# Altium footprint library CONN_W2B.PcbLib: 89 footprints (part 4 of 6)
Each footprint in its own frame and in the unit in brackets; x right, y up, seen from the top. Pads: shape width x height; smd on the part's side, far side on the other; paste and mask are expansions set on the pad; w line width, h text height; cw(c..) or ccw(c..) is an arc to the next point about the centre after c.
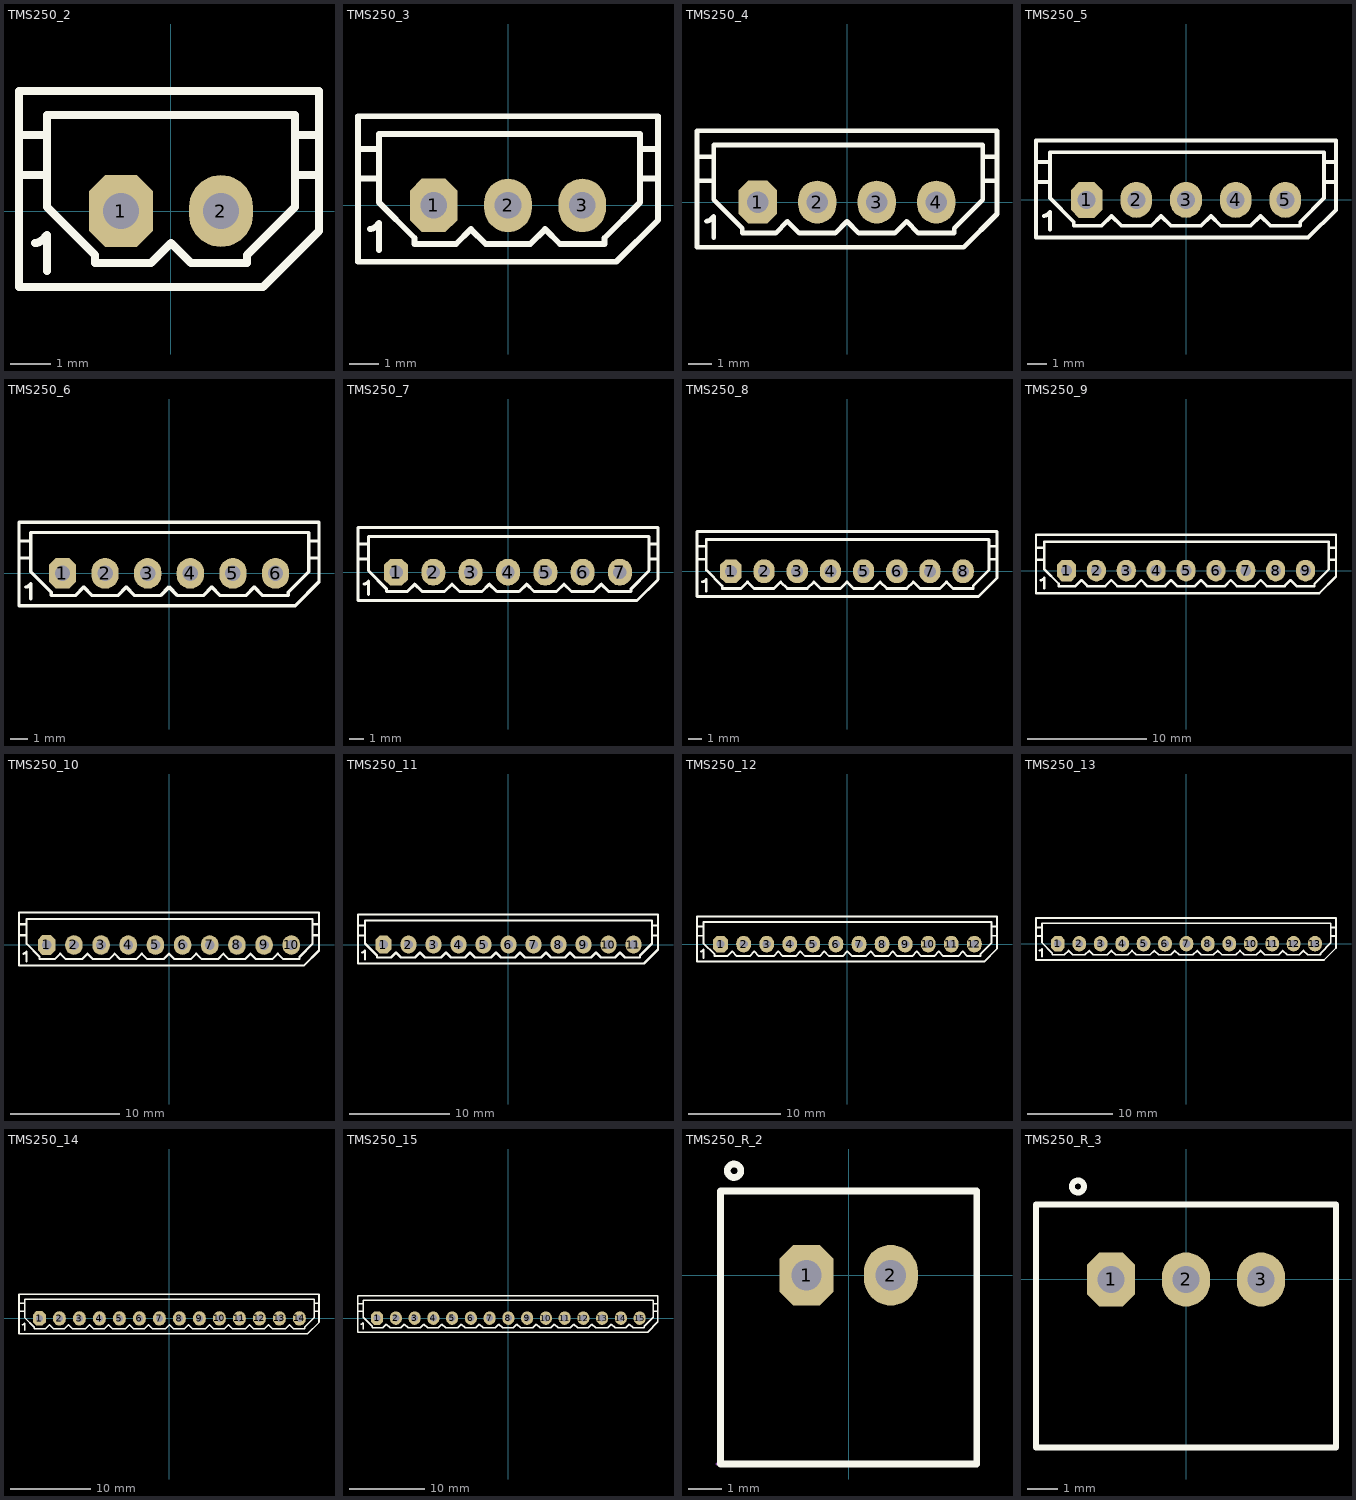
[diagram p3: the footprints below, top view; thin cyan lines are the x and y axes]

## TMS250_2 [mm] "Molex Mini-SPOX, pitch 2.50mm, 4.0A"
pads (2):
  oct 1.6x1.8 hole 0.9: 1(-1.25,0)
  oval 1.6x1.8 hole 0.9: 2(1.25,0)
Top Overlay:
  lines w0.2: -3.7,0.9 -3.1,0.9 ; -3.7,1.9 -3.1,1.9 ; -3.4,-0.8 ccw(c-3.4,-0.559) -3.229,-0.729 -3.1,-0.6 -3.1,-1.5 ; 3.7,0.9 3.1,0.9 ; 3.7,1.9 3.1,1.9 ; -3.1,0.9 -3.1,0.1 -1.9,-1.1 -1.9,-1.3 -0.5,-1.3 0,-0.8 0.5,-1.3 1.9,-1.3 1.9,-1.1 3.1,0.1 3.1,0.9 ; -3.1,0.9 -3.1,1.9 ; -3.1,1.9 -3.1,2.4 3.1,2.4 3.1,1.9 ; 3.1,0.9 3.1,1.9 ; -3.8,-1.9 2.3,-1.9 3.7,-0.5 3.7,3 -3.8,3 -3.8,-1.9
3D body "User Library-TMS2-2_5_S-H.step": height 10.85, standoff -3.55, extent -3.7,-1.81 3.7,3.21

## TMS250_3 [mm] "Molex Mini-SPOX, pitch 2.50mm, 4.0A"
pads (3):
  oct 1.6x1.8 hole 0.9: 1(-2.5,0)
  oval 1.6x1.8 hole 0.9: 2(0,0) 3(2.5,0)
Top Overlay:
  lines w0.2: -4.95,0.9 -4.35,0.9 ; -4.95,1.9 -4.35,1.9 ; -4.65,-0.8 ccw(c-4.65,-0.559) -4.479,-0.729 -4.35,-0.6 -4.35,-1.5 ; 5.05,0.9 4.45,0.9 ; 5.05,1.9 4.45,1.9 ; -4.35,0.9 -4.35,1.9 ; -4.35,0.9 -4.35,0.1 -3.15,-1.1 -3.15,-1.3 -1.75,-1.3 -1.25,-0.8 -0.75,-1.3 0.75,-1.3 1.25,-0.8 1.75,-1.3 3.25,-1.3 3.25,-1.1 4.45,0.1 4.45,0.9 ; -4.35,1.9 -4.35,2.4 4.45,2.4 4.45,1.9 ; 4.45,0.9 4.45,1.9 ; -5.05,-1.9 3.65,-1.9 5.05,-0.5 5.05,3 -5.05,3 -5.05,-1.9
3D body "User Library-TMS3-2_5_S-H.step": height 10.85, standoff -3.55, extent -4.95,-1.8 4.95,3.22

## TMS250_4 [mm] "Molex Mini-SPOX, pitch 2.50mm, 4.0A"
pads (4):
  oct 1.6x1.8 hole 0.9: 1(-3.75,0)
  oval 1.6x1.8 hole 0.9: 2(-1.25,0) 3(1.25,0) 4(3.75,0)
Top Overlay:
  lines w0.2: -6.2,0.9 -5.6,0.9 ; -6.2,1.9 -5.6,1.9 ; -5.9,-0.8 ccw(c-5.9,-0.559) -5.729,-0.729 -5.6,-0.6 -5.6,-1.5 ; 6.3,0.9 5.7,0.9 ; 6.3,1.9 5.7,1.9 ; -5.6,0.9 -5.6,0.1 -4.4,-1.1 -4.4,-1.3 -3,-1.3 -2.5,-0.8 -2,-1.3 -0.5,-1.3 0,-0.8 0.5,-1.3 2,-1.3 2.5,-0.8 3,-1.3 4.5,-1.3 4.5,-1.1 5.7,0.1 5.7,0.9 ; -5.6,0.9 -5.6,1.9 ; -5.6,1.9 -5.6,2.4 5.7,2.4 5.7,1.9 ; 5.7,0.9 5.7,1.9 ; -6.3,-1.9 -6.3,3 6.3,3 6.3,-0.5 4.9,-1.9 -6.3,-1.9
3D body "User Library-TMS4-2_5_S-H.step": height 10.85, standoff -3.55, extent -6.2,-1.8 6.2,3.22

## TMS250_5 [mm] "Molex Mini-SPOX, pitch 2.50mm, 4.0A"
pads (5):
  oct 1.6x1.8 hole 0.9: 1(-5,0)
  oval 1.6x1.8 hole 0.9: 2(-2.5,0) 3(0,0) 4(2.5,0) 5(5,0)
Top Overlay:
  lines w0.2: -7.45,0.9 -6.85,0.9 ; -7.45,1.9 -6.85,1.9 ; -7.15,-0.8 ccw(c-7.15,-0.559) -6.979,-0.729 -6.85,-0.6 -6.85,-1.5 ; 7.55,0.9 6.95,0.9 ; 7.55,1.9 6.95,1.9 ; -6.85,0.9 -6.85,1.9 ; -6.85,0.9 -6.85,0.1 -5.65,-1.1 -5.65,-1.3 -4.25,-1.3 -3.75,-0.8 -3.25,-1.3 -1.75,-1.3 -1.25,-0.8 -0.75,-1.3 0.75,-1.3 1.25,-0.8 1.75,-1.3 3.25,-1.3 3.75,-0.8 4.25,-1.3 5.75,-1.3 5.75,-1.1 6.95,0.1 6.95,0.9 ; -6.85,1.9 -6.85,2.4 6.95,2.4 6.95,1.9 ; 6.95,0.9 6.95,1.9 ; -7.55,-1.9 6.15,-1.9 7.55,-0.5 7.55,3 -7.55,3 -7.55,-1.9
3D body "User Library-TMS5-2_5_S-H.step": height 10.85, standoff -3.55, extent -7.45,-1.8 7.45,3.22

## TMS250_6 [mm] "Molex Mini-SPOX, pitch 2.50mm, 4.0A"
pads (6):
  oct 1.6x1.8 hole 0.9: 1(-6.25,0)
  oval 1.6x1.8 hole 0.9: 2(-3.75,0) 3(-1.25,0) 4(1.25,0) 5(3.75,0) 6(6.25,0)
Top Overlay:
  lines w0.2: -8.7,0.9 -8.1,0.9 ; -8.7,1.9 -8.1,1.9 ; -8.4,-0.8 ccw(c-8.4,-0.559) -8.229,-0.729 -8.1,-0.6 -8.1,-1.5 ; 8.8,0.9 8.2,0.9 ; 8.8,1.9 8.2,1.9 ; -8.1,0.9 -8.1,0.1 -6.9,-1.1 -6.9,-1.3 -5.5,-1.3 -5,-0.8 -4.5,-1.3 -3,-1.3 -2.5,-0.8 -2,-1.3 -0.5,-1.3 0,-0.8 0.5,-1.3 2,-1.3 2.5,-0.8 3,-1.3 4.5,-1.3 5,-0.8 5.5,-1.3 7,-1.3 7,-1.1 8.2,0.1 8.2,0.9 ; -8.1,0.9 -8.1,1.9 ; -8.1,1.9 -8.1,2.4 8.2,2.4 8.2,1.9 ; 8.2,0.9 8.2,1.9 ; -8.8,-1.9 -8.8,3 8.8,3 8.8,-0.5 7.4,-1.9 -8.8,-1.9
3D body "User Library-TMS6-2_5_S-H.step": height 10.85, standoff -3.55, extent -8.7,-1.8 8.7,3.22

## TMS250_7 [mm] "Molex Mini-SPOX, pitch 2.50mm, 4.0A"
pads (7):
  oct 1.6x1.8 hole 0.9: 1(-7.5,0)
  oval 1.6x1.8 hole 0.9: 2(-5,0) 3(-2.5,0) 4(0,0) 5(2.5,0) 6(5,0) 7(7.5,0)
Top Overlay:
  lines w0.2: -9.95,0.9 -9.35,0.9 ; -9.95,1.9 -9.35,1.9 ; -9.65,-0.8 ccw(c-9.65,-0.559) -9.479,-0.729 -9.35,-0.6 -9.35,-1.5 ; 10.05,0.9 9.45,0.9 ; 10.05,1.9 9.45,1.9 ; -9.35,0.9 -9.35,1.9 ; -9.35,0.9 -9.35,0.1 -8.15,-1.1 -8.15,-1.3 -6.75,-1.3 -6.25,-0.8 -5.75,-1.3 -4.25,-1.3 -3.75,-0.8 -3.25,-1.3 -1.75,-1.3 -1.25,-0.8 -0.75,-1.3 0.75,-1.3 1.25,-0.8 1.75,-1.3 3.25,-1.3 3.75,-0.8 4.25,-1.3 5.75,-1.3 6.25,-0.8 6.75,-1.3 8.25,-1.3 8.25,-1.1 9.45,0.1 9.45,0.9 ; -9.35,1.9 -9.35,2.4 9.45,2.4 9.45,1.9 ; 9.45,0.9 9.45,1.9 ; -10.05,-1.9 8.65,-1.9 10.05,-0.5 10.05,3 -10.05,3 -10.05,-1.9
3D body "User Library-TMS7-2_5_S-H.step": height 10.85, standoff -3.55, extent -9.95,-1.8 9.95,3.22

## TMS250_8 [mm] "Molex Mini-SPOX, pitch 2.50mm, 4.0A"
pads (8):
  oct 1.6x1.8 hole 0.9: 1(-8.75,0)
  oval 1.6x1.8 hole 0.9: 2(-6.25,0) 3(-3.75,0) 4(-1.25,0) 5(1.25,0) 6(3.75,0) 7(6.25,0) 8(8.75,0)
Top Overlay:
  lines w0.2: -11.2,0.9 -10.6,0.9 ; -11.2,1.9 -10.6,1.9 ; -10.9,-0.8 ccw(c-10.9,-0.559) -10.729,-0.729 -10.6,-0.6 -10.6,-1.5 ; 11.3,0.9 10.7,0.9 ; 11.3,1.9 10.7,1.9 ; -10.6,0.9 -10.6,1.9 ; -10.6,0.9 -10.6,0.1 -9.4,-1.1 -9.4,-1.3 -8,-1.3 -7.5,-0.8 -7,-1.3 -5.5,-1.3 -5,-0.8 -4.5,-1.3 -3,-1.3 -2.5,-0.8 -2,-1.3 -0.5,-1.3 0,-0.8 0.5,-1.3 2,-1.3 2.5,-0.8 3,-1.3 4.5,-1.3 5,-0.8 5.5,-1.3 7,-1.3 7.5,-0.8 8,-1.3 9.5,-1.3 9.5,-1.1 10.7,0.1 10.7,0.9 ; -10.6,1.9 -10.6,2.4 10.7,2.4 10.7,1.9 ; 10.7,0.9 10.7,1.9 ; -11.3,-1.9 9.9,-1.9 11.3,-0.5 11.3,3 -11.3,3 -11.3,-1.9
3D body "User Library-TMS8-2_5_S-H.step": height 10.85, standoff -3.55, extent -11.2,-1.8 11.2,3.22

## TMS250_9 [mm] "Molex Mini-SPOX, pitch 2.50mm, 4.0A"
pads (9):
  oct 1.6x1.8 hole 0.9: 1(-10,0)
  oval 1.6x1.8 hole 0.9: 2(-7.5,0) 3(-5,0) 4(-2.5,0) 5(0,0) 6(2.5,0) 7(5,0) 8(7.5,0) 9(10,0)
Top Overlay:
  lines w0.2: -12.45,0.9 -11.85,0.9 ; -12.45,1.9 -11.85,1.9 ; -12.15,-0.8 ccw(c-12.15,-0.559) -11.979,-0.729 -11.85,-0.6 -11.85,-1.5 ; 12.55,0.9 11.95,0.9 ; 12.55,1.9 11.95,1.9 ; -11.85,0.9 -11.85,1.9 ; -11.85,0.9 -11.85,0.1 -10.65,-1.1 -10.65,-1.3 -9.25,-1.3 -8.75,-0.8 -8.25,-1.3 -6.75,-1.3 -6.25,-0.8 -5.75,-1.3 -4.25,-1.3 -3.75,-0.8 -3.25,-1.3 -1.75,-1.3 -1.25,-0.8 -0.75,-1.3 0.75,-1.3 1.25,-0.8 1.75,-1.3 3.25,-1.3 3.75,-0.8 4.25,-1.3 5.75,-1.3 6.25,-0.8 6.75,-1.3 8.25,-1.3 8.75,-0.8 9.25,-1.3 10.75,-1.3 10.75,-1.1 11.95,0.1 11.95,0.9 ; -11.85,1.9 -11.85,2.4 11.95,2.4 11.95,1.9 ; 11.95,0.9 11.95,1.9 ; -12.55,-1.9 11.15,-1.9 12.55,-0.5 12.55,3 -12.55,3 -12.55,-1.9
3D body "User Library-TMS9-2_5_S-H.step": height 10.85, standoff -3.55, extent -12.45,-1.8 12.45,3.22

## TMS250_10 [mm] "Molex Mini-SPOX, pitch 2.50mm, 4.0A"
pads (10):
  oct 1.6x1.8 hole 0.9: 1(-11.25,0)
  oval 1.6x1.8 hole 0.9: 2(-8.75,0) 3(-6.25,0) 4(-3.75,0) 5(-1.25,0) 6(1.25,0) 7(3.75,0) 8(6.25,0) 9(8.75,0) 10(11.25,0)
Top Overlay:
  lines w0.2: -13.7,0.9 -13.1,0.9 ; -13.7,1.9 -13.1,1.9 ; -13.4,-0.8 ccw(c-13.4,-0.559) -13.229,-0.729 -13.1,-0.6 -13.1,-1.5 ; 13.8,0.9 13.2,0.9 ; 13.8,1.9 13.2,1.9 ; -13.1,0.9 -13.1,1.9 ; -13.1,0.9 -13.1,0.1 -11.9,-1.1 -11.9,-1.3 -10.5,-1.3 -10,-0.8 -9.5,-1.3 -8,-1.3 -7.5,-0.8 -7,-1.3 -5.5,-1.3 -5,-0.8 -4.5,-1.3 -3,-1.3 -2.5,-0.8 -2,-1.3 -0.5,-1.3 0,-0.8 0.5,-1.3 2,-1.3 2.5,-0.8 3,-1.3 4.5,-1.3 5,-0.8 5.5,-1.3 7,-1.3 7.5,-0.8 8,-1.3 9.5,-1.3 10,-0.8 ; -13.1,1.9 -13.1,2.4 13.2,2.4 13.2,1.9 ; 10,-0.8 10.5,-1.3 ; 10,-0.8 10.5,-1.3 ; 10.5,-1.3 12,-1.3 12,-1.1 13.2,0.1 13.2,0.9 ; 13.2,0.9 13.2,1.9 ; -13.8,-1.9 12.4,-1.9 13.8,-0.5 13.8,3 -13.8,3 -13.8,-1.9
3D body "User Library-TMS10-2_5_S-H.step": height 10.85, standoff -3.55, extent -13.7,-1.8 13.7,3.22

## TMS250_11 [mm] "Molex Mini-SPOX, pitch 2.50mm, 4.0A"
pads (11):
  oct 1.6x1.8 hole 0.9: 1(-12.5,0)
  oval 1.6x1.8 hole 0.9: 2(-10,0) 3(-7.5,0) 4(-5,0) 5(-2.5,0) 6(0,0) 7(2.5,0) 8(5,0) 9(7.5,0) 10(10,0) 11(12.5,0)
Top Overlay:
  lines w0.2: -14.95,0.9 -14.35,0.9 ; -14.95,1.9 -14.35,1.9 ; -14.65,-0.8 ccw(c-14.65,-0.559) -14.479,-0.729 -14.35,-0.6 -14.35,-1.5 ; 14.95,0.9 14.35,0.9 ; 14.95,1.9 14.35,1.9 ; -14.35,0.9 -14.35,0.1 -13.15,-1.1 -13.15,-1.3 -11.75,-1.3 -11.25,-0.8 -10.75,-1.3 -9.35,-1.3 -8.85,-0.8 -8.35,-1.3 -6.75,-1.3 -6.25,-0.8 -5.75,-1.3 -4.35,-1.3 -3.85,-0.8 -3.35,-1.3 -1.75,-1.3 -1.25,-0.8 -0.75,-1.3 0.65,-1.3 1.15,-0.8 1.65,-1.3 3.25,-1.3 3.75,-0.8 4.25,-1.3 5.65,-1.3 6.15,-0.8 6.65,-1.3 8.25,-1.3 8.75,-0.8 9.25,-1.3 10.65,-1.3 11.15,-0.8 11.65,-1.3 13.15,-1.3 13.15,-1.1 14.35,0.1 14.35,0.9 ; -14.35,0.9 -14.35,1.9 ; -14.35,1.9 -14.35,2.4 14.35,2.4 14.35,1.9 ; 14.35,0.9 14.35,1.9 ; -15.05,-1.9 13.55,-1.9 14.95,-0.5 14.95,3 -15.05,3 -15.05,-1.9
3D body "User Library-TMS11-2_5_S-H.step": height 10.85, standoff -3.55, extent -14.95,-1.8 14.95,3.22

## TMS250_12 [mm] "Molex Mini-SPOX, pitch 2.50mm, 4.0A"
pads (12):
  oct 1.6x1.8 hole 0.9: 1(-13.75,0)
  oval 1.6x1.8 hole 0.9: 2(-11.25,0) 3(-8.75,0) 4(-6.25,0) 5(-3.75,0) 6(-1.25,0) 7(1.25,0) 8(3.75,0) 9(6.25,0) 10(8.75,0) 11(11.25,0) 12(13.75,0)
Top Overlay:
  lines w0.2: -16.2,0.9 -15.6,0.9 ; -16.2,1.9 -15.6,1.9 ; -15.9,-0.8 ccw(c-15.9,-0.559) -15.729,-0.729 -15.6,-0.6 -15.6,-1.5 ; 16.2,0.9 15.6,0.9 ; 16.2,1.9 15.6,1.9 ; -15.6,0.9 -15.6,1.9 ; -15.6,0.9 -15.6,0.1 -14.4,-1.1 -14.4,-1.3 -13,-1.3 -12.5,-0.8 -12,-1.3 -10.6,-1.3 -10.1,-0.8 -9.6,-1.3 -8,-1.3 -7.5,-0.8 -7,-1.3 -5.6,-1.3 -5.1,-0.8 -4.6,-1.3 -3,-1.3 -2.5,-0.8 -2,-1.3 -0.5,-1.3 0,-0.8 0.5,-1.3 2,-1.3 2.5,-0.8 3,-1.3 4.4,-1.3 4.9,-0.8 5.4,-1.3 7,-1.3 7.5,-0.8 8,-1.3 9.4,-1.3 9.9,-0.8 10.4,-1.3 12,-1.3 12.5,-0.8 13,-1.3 14.4,-1.3 14.4,-1.1 15.6,0.1 15.6,0.9 ; -15.6,1.9 -15.6,2.4 15.6,2.4 15.6,1.9 ; 15.6,0.9 15.6,1.9 ; -16.3,-1.9 -16.3,3 16.2,3 16.2,-0.5 14.8,-1.9 -16.3,-1.9
3D body "User Library-TMS12-2_5_S-H.step": height 10.85, standoff -3.55, extent -16.2,-1.8 16.2,3.22

## TMS250_13 [mm] "Molex Mini-SPOX, pitch 2.50mm, 4.0A"
pads (13):
  oct 1.6x1.8 hole 0.9: 1(-15,0)
  oval 1.6x1.8 hole 0.9: 2(-12.5,0) 3(-10,0) 4(-7.5,0) 5(-5,0) 6(-2.5,0) 7(0,0) 8(2.5,0) 9(5,0) 10(7.5,0) 11(10,0) 12(12.5,0) 13(15,0)
Top Overlay:
  lines w0.2: -17.45,0.9 -16.85,0.9 ; -17.45,1.9 -16.85,1.9 ; -17.15,-0.8 ccw(c-17.15,-0.559) -16.979,-0.729 -16.85,-0.6 -16.85,-1.5 ; 17.45,0.9 16.85,0.9 ; 17.45,1.9 16.85,1.9 ; -16.85,0.9 -16.85,1.9 ; -16.85,0.9 -16.85,0.1 -15.65,-1.1 -15.65,-1.3 -14.25,-1.3 -13.75,-0.8 -13.25,-1.3 -11.85,-1.3 -11.35,-0.8 -10.85,-1.3 -9.25,-1.3 -8.75,-0.8 -8.25,-1.3 -6.85,-1.3 -6.35,-0.8 -5.85,-1.3 -4.25,-1.3 -3.75,-0.8 -3.25,-1.3 -1.85,-1.3 -1.35,-0.8 -0.85,-1.3 0.75,-1.3 1.25,-0.8 1.75,-1.3 3.15,-1.3 3.65,-0.8 4.15,-1.3 5.75,-1.3 6.25,-0.8 6.75,-1.3 8.15,-1.3 8.65,-0.8 9.15,-1.3 10.75,-1.3 11.25,-0.8 11.75,-1.3 13.15,-1.3 13.65,-0.8 14.15,-1.3 15.65,-1.3 15.65,-1.1 16.85,0.1 16.85,0.9 ; -16.85,1.9 -16.85,2.4 16.85,2.4 16.85,1.9 ; 16.85,0.9 16.85,1.9 ; -17.55,-1.9 -17.55,3 17.45,3 17.45,-0.5 16.05,-1.9 -17.55,-1.9
3D body "User Library-TMS13-2_5_S-H.step": height 10.85, standoff -3.55, extent -17.45,-1.8 17.45,3.22

## TMS250_14 [mm] "Molex Mini-SPOX, pitch 2.50mm, 4.0A"
pads (14):
  oct 1.6x1.8 hole 0.9: 1(-16.25,0)
  oval 1.6x1.8 hole 0.9: 2(-13.75,0) 3(-11.25,0) 4(-8.75,0) 5(-6.25,0) 6(-3.75,0) 7(-1.25,0) 8(1.25,0) 9(3.75,0) 10(6.25,0) 11(8.75,0) 12(11.25,0) 13(13.75,0) 14(16.25,0)
Top Overlay:
  lines w0.2: -18.7,0.9 -18.1,0.9 ; -18.7,1.9 -18.1,1.9 ; -18.4,-0.8 ccw(c-18.4,-0.559) -18.229,-0.729 -18.1,-0.6 -18.1,-1.5 ; 18.65,3 -18.8,3 -18.8,-1.9 17.3,-1.9 18.7,-0.5 18.7,3 ; 18.7,0.9 18.1,0.9 ; 18.7,1.9 18.1,1.9 ; -18.1,0.9 -18.1,0.1 -16.9,-1.1 -16.9,-1.3 -15.5,-1.3 -15,-0.8 -14.5,-1.3 -13.1,-1.3 -12.6,-0.8 -12.1,-1.3 -10.5,-1.3 -10,-0.8 -9.5,-1.3 -8.1,-1.3 -7.6,-0.8 -7.1,-1.3 -5.5,-1.3 -5,-0.8 -4.5,-1.3 -3.1,-1.3 -2.6,-0.8 -2.1,-1.3 -0.5,-1.3 0,-0.8 0.5,-1.3 1.9,-1.3 2.4,-0.8 2.9,-1.3 4.5,-1.3 5,-0.8 5.5,-1.3 6.9,-1.3 7.4,-0.8 7.9,-1.3 9.5,-1.3 10,-0.8 10.5,-1.3 11.9,-1.3 12.4,-0.8 12.9,-1.3 14.5,-1.3 15,-0.8 15.5,-1.3 16.9,-1.3 16.9,-1.1 18.1,0.1 18.1,0.9 ; -18.1,0.9 -18.1,1.9 ; -18.1,1.9 -18.1,2.4 18.1,2.4 18.1,1.9 ; 18.1,0.9 18.1,1.9
3D body "User Library-TMS14-2_5_S-H.step": height 10.85, standoff -3.55, extent -18.7,-1.8 18.7,3.22

## TMS250_15 [mm] "Molex Mini-SPOX, pitch 2.50mm, 4.0A"
pads (15):
  oct 1.6x1.8 hole 0.9: 1(-17.5,0)
  oval 1.6x1.8 hole 0.9: 2(-15,0) 3(-12.5,0) 4(-10,0) 5(-7.5,0) 6(-5,0) 7(-2.5,0) 8(0,0) 9(2.5,0) 10(5,0) 11(7.5,0) 12(10,0) 13(12.5,0) 14(15,0) 15(17.5,0)
Top Overlay:
  lines w0.2: -19.95,0.9 -19.35,0.9 ; -19.95,1.9 -19.35,1.9 ; -19.65,-0.8 ccw(c-19.65,-0.559) -19.479,-0.729 -19.35,-0.6 -19.35,-1.5 ; 19.95,0.9 19.35,0.9 ; 19.95,1.9 19.35,1.9 ; -19.35,0.9 -19.35,1.9 ; -19.35,0.9 -19.35,0.1 -18.15,-1.1 -18.15,-1.3 -16.75,-1.3 -16.25,-0.8 -15.75,-1.3 -14.35,-1.3 -13.85,-0.8 -13.35,-1.3 -11.75,-1.3 -11.25,-0.8 -10.75,-1.3 -9.35,-1.3 -8.85,-0.8 -8.35,-1.3 -6.75,-1.3 -6.25,-0.8 -5.75,-1.3 -4.35,-1.3 -3.85,-0.8 -3.35,-1.3 -1.75,-1.3 -1.25,-0.8 -0.75,-1.3 0.65,-1.3 1.15,-0.8 1.65,-1.3 3.25,-1.3 3.75,-0.8 4.25,-1.3 5.65,-1.3 6.15,-0.8 6.65,-1.3 8.25,-1.3 8.75,-0.8 9.25,-1.3 10.65,-1.3 11.15,-0.8 11.65,-1.3 13.25,-1.3 13.75,-0.8 14.25,-1.3 15.65,-1.3 16.15,-0.8 16.65,-1.3 18.15,-1.3 18.15,-1.1 19.35,0.1 19.35,0.9 ; -19.35,1.9 -19.35,2.4 19.35,2.4 19.35,1.9 ; 19.35,0.9 19.35,1.9 ; -20.05,-1.9 -20.05,3 19.95,3 19.95,-0.5 18.55,-1.9 -20.05,-1.9
3D body "User Library-TMS15-2_5_S-H.step": height 10.85, standoff -3.55, extent -19.95,-1.8 19.95,3.22

## TMS250_R_2 [mm] "Molex Mini-SPOX, pitch 2.50mm, 4.0A"
pads (2):
  oct 1.6x1.8 hole 0.9: 1(-1.25,0)
  oval 1.6x1.8 hole 0.9: 2(1.25,0)
Top Overlay:
  circle w0.2: c-3.4,3.1 r0.2
  lines w0.2: -3.8,-5.6 3.8,-5.6 3.8,2.5 -3.8,2.5 -3.8,-5.6
Mechanical 13:
  lines w0.1: -3.9,-5.6 -1.3,-5.6
  text "Edge of PCB" at -1.195,-5.932 h1
3D body "User Library-TMS2-2_5_RA-H.step": height 5.09, standoff -3.11, extent -3.7,-11.5 3.7,1.4

## TMS250_R_3 [mm] "Molex Mini-SPOX, pitch 2.50mm, 4.0A"
pads (3):
  oct 1.6x1.8 hole 0.9: 1(-2.5,0)
  oval 1.6x1.8 hole 0.9: 2(0,0) 3(2.5,0)
Top Overlay:
  circle w0.2: c-3.6,3.1 r0.2
  lines w0.2: -5,-5.6 -5,2.5 5,2.5 5,-5.6 -5,-5.6
Mechanical 13:
  lines w0.1: -3.3,-5.6 -0.7,-5.6
  text "Edge of PCB" at -0.595,-5.932 h1
3D body "User Library-TMS3-2_5_RA-H.step": height 5.09, standoff -3.11, extent -4.95,-10.5 4.95,2.4